# Altium schematic symbol library CustomParts.SchLib: 4 symbols
Pins are listed as number, name and electrical type; pins without a type are passive.

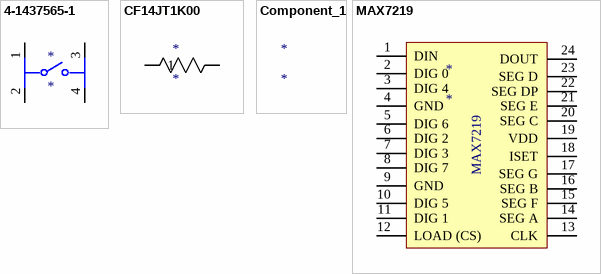
[diagram p0: symbols 4-1437565-1 to MAX7219]

## 4-1437565-1
designator *
Switch Tactile OFF (ON) SPST Round Button Gull Wing 0.05A 12VDC 1.57N SMD Loose Piece; Manufacturer: TE Connectivity; Manufacturer Part Number: 4-1437565-1; Actuator Material: 4302ConductorMaterial; Illumination Type: 4479,4480IlluminationType; Throw Configuration: 255Throw Configuration; Contact Current Rating: 50mA; Number of Positions: 2NUMBER; Switch Function: 6033SwitchFunction; Voltage Rating (DC): 24V; Contact Resistance: 100mR; Max Voltage Rating (DC): 12V; Switch Travel: 250um; Actuator Length: 1.397mm; Supplier: Rs; Supplier Part Number: 4791508P; RoHS: Yes; Category: Pushbutton Switches; Stock: 25850; Pricing: 200=0.193, 500=0.192, 1000=0.182, 2000=0.164 (GBP); Mounting Technology: 8Mount; Case/Package: 98Case; Color: 46Colour; Contact Material: 151ConductorMaterial; Contact Plating: 159ConductorMaterial; Min Operating Temperature: -35°C; Max Operating Temperature: 85°C; Packaging: 14Packaging; Termination: 4594ConnectorType; Current Rating: 50mA; Operating Force: 1.57N; Orientation: 5491OrientationType; Insulation Resistance: 100MR; Voltage Rating: 24V; Type: 6189ProductType; Length: 6mm; Width: 6mm; Height: 5.38mm; Reach SVHC Compliant: 4187SVHC; Lead Free: 5697LeadFree; ComponentLink1URL: https://datasheet.octopart.com/FSM4JSMA-Alcoswitch-datasheet-14569010.pdf?src-supplier=Newark; ComponentLink1Description: https://datasheet.octopart.com/FSM4JSMA-Alcoswitch-datasheet-14569010.pdf?src-supplier=Newark; ComponentLink2URL: https://datasheet.octopart.com/4-1437565-1-TE-Connectivity-datasheet-140613590.pdf?src-supplier=TME; ComponentLink2Description: https://datasheet.octopart.com/4-1437565-1-TE-Connectivity-datasheet-140613590.pdf?src-supplier=TME
footprint Push Button
pins: 1, 2, 3, 4

## CF14JT1K00
designator *
Res Carbon Film 1K Ohm 5% 1/4W -400ppm/°C to 0ppm/°C Conformal AXL Thru-Hole T/R; Manufacturer: Stackpole Electronics; Manufacturer Part Number: CF14JT1K00; Supplier: Avnet; Supplier Part Number: CF14JT1K00; RoHS: Yes; Category: Through-Hole Resistors; Stock: 5000; Pricing: 5000=0.0063, 10000=0.00621, 20000=0.00612, 30000=0.00603, 40000=0.00594, 50000=0.00585, 500000=0.00576 (USD); ComponentLink1URL: http://components.arrow.com/part/dataview/27620077S9848643N1174?src-supplier=Arrow+Electronics; ComponentLink1Description: http://components.arrow.com/part/dataview/27620077S9848643N1174?src-supplier=Arrow+Electronics; ComponentLink2URL: https://www.seielect.com/catalog/SEI-CF_CFM.pdf?src-supplier=Avnet; ComponentLink2Description: https://www.seielect.com/catalog/SEI-CF_CFM.pdf?src-supplier=Avnet; ComponentLink3URL: https://www.seielect.com/catalog/SEI-Packaging.pdf?src-supplier=Digikey; ComponentLink3Description: https://www.seielect.com/catalog/SEI-Packaging.pdf?src-supplier=Digikey; ComponentLink4URL: https://www.seielect.com/Catalog/SEI-CF_CFM.pdf?src-supplier=Digikey; ComponentLink4Description: https://www.seielect.com/Catalog/SEI-CF_CFM.pdf?src-supplier=Digikey; ComponentLink5URL: http://www.seielect.com/Catalog/SEI-CF_CFM.pdf?src-supplier=Future+Electronics; ComponentLink5Description: http://www.seielect.com/Catalog/SEI-CF_CFM.pdf?src-supplier=Future+Electronics; ComponentLink6URL: https://www.verical.com/server-webapp/html/getDatasheet?partID=360403&src-supplier=Verical; ComponentLink6Description: https://www.verical.com/server-webapp/html/getDatasheet?partID=360403&src-supplier=Verical; ComponentLink7URL: https://datasheet.octopart.com/CF14JT1K00-Stackpole-Electronics-datasheet-8360004.pdf?src-supplier=Future+Electronics; ComponentLink7Description: https://datasheet.octopart.com/CF14JT1K00-Stackpole-Electronics-datasheet-8360004.pdf?src-supplier=Future+Electronics; ComponentLink8URL: https://datasheet.octopart.com/CF14JT1K00-Stackpole-Electronics-datasheet-32780772.pdf?src-supplier=Master+Electronics; ComponentLink8Description: https://datasheet.octopart.com/CF14JT1K00-Stackpole-Electronics-datasheet-32780772.pdf?src-supplier=Master+Electronics
footprint 1k ohm
pins: 1, 2

## Component_1
designator *

## MAX7219
designator *
footprint MAX7219
pins: 1 DIN, 2 DIG 0, 3 DIG 4, 4 GND, 5 DIG 6, 6 DIG 2, 7 DIG 3, 8 DIG 7, 9 GND, 10 DIG 5, 11 DIG 1, 12 LOAD (CS), 13 CLK, 14 SEG A, 15 SEG F, 16 SEG B, 17 SEG G, 18 ISET, 19 VDD, 20 SEG C, 21 SEG E, 22 SEG DP, 23 SEG D, 24 DOUT